# EAGLE library part LSM303DLHC (library zortness)
LSM303DLHC High Performance e-compass, 3D accelerometer, and 3D magnometer I2C communication 2g, 4g, 8g, 16g 1.3, 1.9, 2.5, 4.0, 4.7, 5.6, 8.1 gauss DigiKey PN 497-11918-1-ND <http://www.digikey.com/product-detail/en/LSM303DLHCTR/497-11918-1-ND/2757636>
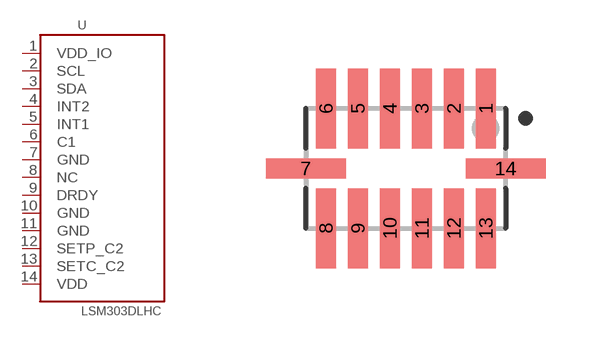
[diagram p4: symbol with the pads of LGA14; footprint LGA14]

Designator prefix U

## LSM303DLHC  [LGA14]
1  VDD_IO  pwr
2  SCL
3  SDA
4  INT2
5  INT1
6  C1  pas
7  GND  pwr
8  NC  nc
9  DRDY
10  GND  pwr
11  GND  pwr
12  SETP_C2  pas
13  SETC_C2  pas
14  VDD  pwr

## Footprint LGA14 (pad centres in mm)
LGA14 package 5mm x 3mm
smd 0.5 x 2: 1 2,1.5; 2 1.2,1.5; 3 0.4,1.5; 4 -0.4,1.5; 5 -1.2,1.5; 6 -2,1.5; 8 -2,-1.5; 9 -1.2,-1.5; 10 -0.4,-1.5; 11 0.4,-1.5; 12 1.2,-1.5; 13 2,-1.5
smd 2 x 0.5: 7 -2.5,0; 14 2.5,0